# Altium footprint library MULTIPIN_QFP.PcbLib: 1 footprints
Each footprint in its own frame and in the unit in brackets; x right, y up, seen from the top. Pads: shape width x height; smd on the part's side, far side on the other; paste and mask are expansions set on the pad; w line width, h text height; cw(c..) or ccw(c..) is an arc to the next point about the centre after c.
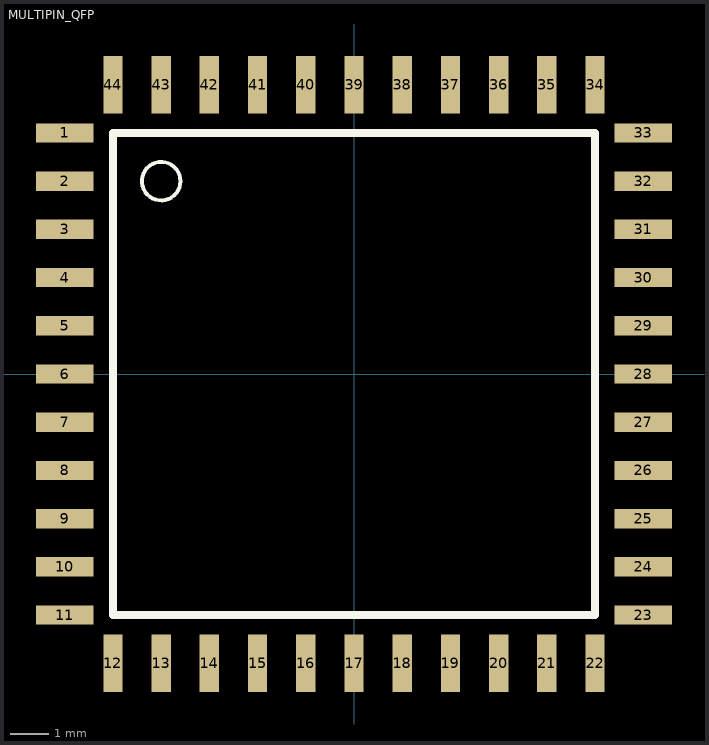
[diagram p0: the footprint, top view; thin cyan lines are the x and y axes]

## MULTIPIN_QFP [mil] "QFP-44 style multi-pin footprint"
pads (44):
  rect 60x20 smd: 1(-300,250) 2(-300,200) 3(-300,150) 4(-300,100) 5(-300,50) 6(-300,0) 7(-300,-50) 8(-300,-100) 9(-300,-150) 10(-300,-200) 11(-300,-250) 23(300,-250) 24(300,-200) 25(300,-150) 26(300,-100) 27(300,-50) 28(300,0) 29(300,50) 30(300,100) 31(300,150) 32(300,200) 33(300,250)
  rect 20x60 smd: 12(-250,-300) 13(-200,-300) 14(-150,-300) 15(-100,-300) 16(-50,-300) 17(0,-300) 18(50,-300) 19(100,-300) 20(150,-300) 21(200,-300) 22(250,-300) 34(250,300) 35(200,300) 36(150,300) 37(100,300) 38(50,300) 39(0,300) 40(-50,300) 41(-100,300) 42(-150,300) 43(-200,300) 44(-250,300)
Top Overlay:
  circle w4: c-200,200 r20
  lines w8: -250,-250 -250,250 250,250 250,-250 -250,-250